# Altium schematic symbol library emi.SchLib: 1 symbol
Pins are listed as number, name and electrical type; pins without a type are passive.

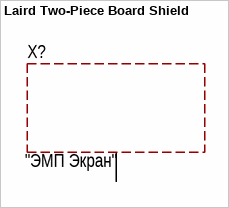
[diagram p0: symbol Laird Two-Piece Board Shield]

## Laird Two-Piece Board Shield
designator X?  CommentText: "ЭМП Экран"
Manufacturer: Laird Performance Materials; ValueManufacturerPartNumber: RF Shields, 7.00mm, 29.36mm, 18.50mm; PartNumber: BMI-S-209-F; TypeEMI: RF Shields; HelpURL: https://www.digikey.com/en/products/detail/laird-technologies-emi/BMI-S-209-F/3662029?s=N4IgTCBcDaIEIFkCSBaAyisAGAnCgYiALoC%2BQA; Height: 7.00mm; Length: 29.36mm; Width: 18.50mm
footprint LAIRD_BMI-S-209-F (Two-Piece Board Level Shield, Frame 29.36x18.50x7.00)
footprint LAIRD_BMI-S-101-F (Two-Piece Board Level Shield, Frame 13.66x12.70x2.54)
pins: 1